# Altium footprint library sensor-heraeus.PCBLIB: 2 footprints
Each footprint in its own frame and in the unit in brackets; x right, y up, seen from the top. Pads: shape width x height; smd on the part's side, far side on the other; paste and mask are expansions set on the pad; w line width, h text height; cw(c..) or ccw(c..) is an arc to the next point about the centre after c.
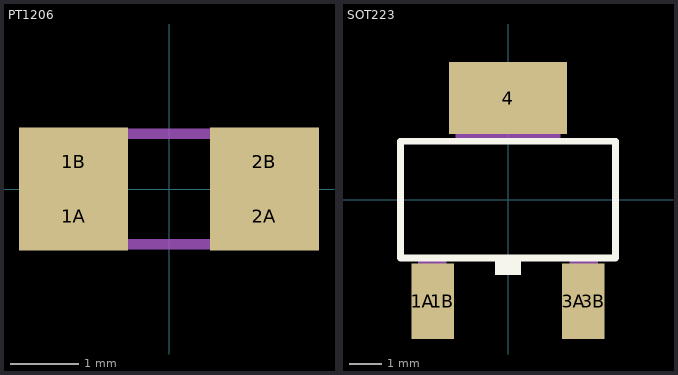
[diagram p0: the footprints below, top view; thin cyan lines are the x and y axes]

## PT1206 [mm]
pads (4):
  rect 1.6x1 smd: 1A(-1.4,-0.4) 1B(-1.4,0.4) 2A(1.4,-0.4) 2B(1.4,0.4)
Top Paste:
  rectangle: -2.1,-0.8 -0.7,0.8
  rectangle: 0.7,-0.8 2.1,0.8
Mechanical 16:
  rectangle: -1.689,-0.876 -0.953,0.876
  rectangle: 0.953,-0.876 1.689,0.876
  lines w0.152: -0.965,-0.813 0.953,-0.813 ; -0.965,0.813 0.953,0.813
Via Holes:
  rectangle: -2.2,-0.9 -0.6,0.9
  rectangle: 0.6,-0.9 2.2,0.9

## SOT223 [mm]
pads (5):
  rect 0.7x2.3 smd: 1A(-2.6,-3.1) 1B(-2,-3.1) 3A(2,-3.1) 3B(2.6,-3.1)
  rect 3.6x2.2 smd: 4(0,3.099)
Top Overlay:
  rectangle: -0.4,-2.3 0.4,-1.8
  lines w0.203: -3.277,-1.778 3.277,-1.778 3.277,1.778 -3.277,1.778 -3.277,-1.778
Mechanical 16:
  rectangle: -1.6,1.803 1.6,3.658
  rectangle: -2.743,-3.658 -1.88,-1.803
  rectangle: 1.88,-3.658 2.743,-1.803
  rectangle: -1.6,1.803 1.6,3.658
  rectangle: -2.743,-3.658 -1.88,-1.803
  rectangle: 1.88,-3.658 2.743,-1.803